# Altium schematic symbol library HC32brd.SCHLIB: 7 symbols
Pins are listed as number, name and electrical type; pins without a type are passive.

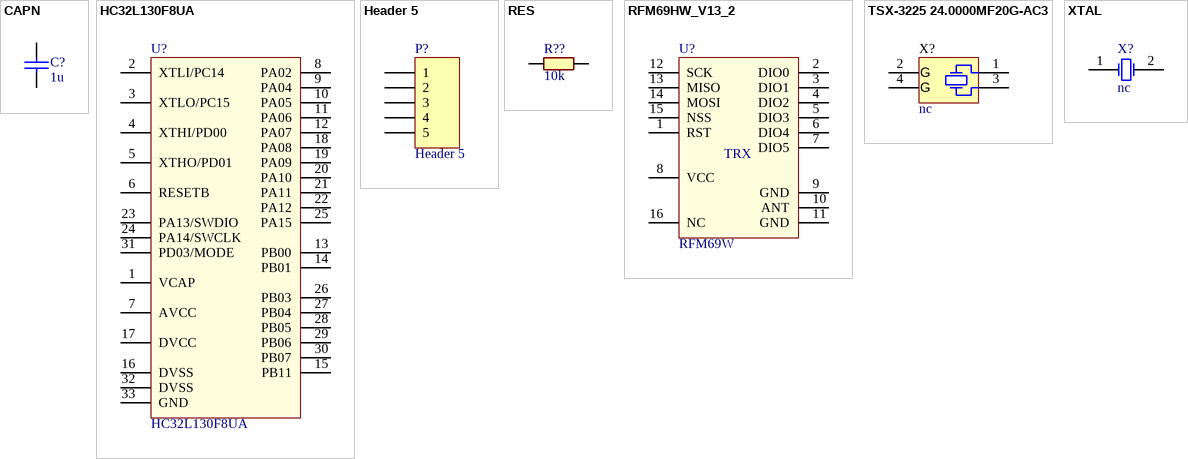
[diagram p0: symbols CAPN to XTAL]

## CAPN
designator C?, comment 1u
Вид: Конденсатор; Корпус: =Footprint; Тип: 1u
footprint C-0603
footprint C-0805
footprint C-1206
footprint CAPC1608X08N (Chip Capacitor, 2-Leads, Body 1,60x0,80mm, IPC Medium Density)
pins: 1, 2

## HC32L130F8UA
designator U?
pins: 1 VCAP, 2 XTLI/PC14, 3 XTLO/PC15, 4 XTHI/PD00, 5 XTHO/PD01, 6 RESETB, 7 AVCC, 8 PA02, 9 PA04, 10 PA05, 11 PA06, 12 PA07, 13 PB00, 14 PB01, 15 PB11, 16 DVSS, 17 DVCC, 18 PA08, 19 PA09, 20 PA10, 21 PA11, 22 PA12, 23 PA13/SWDIO, 24 PA14/SWCLK, 25 PA15, 26 PB03, 27 PB04, 28 PB05, 29 PB06, 30 PB07, 31 PD03/MODE, 32 DVSS, 33 GND

## Header 5
designator P?
Header, 5-Pin; LatestRevisionDate: 17-Jul-2002; LatestRevisionNote: Re-released for DXP Platform.; Publisher: Altium Limited
footprint HDR1X5 (Connector; Header; 5 Position)
signal-integrity model Connector
pins: 1, 2, 3, 4, 5

## RES
designator R??, comment 10k
Вид: Резистор; Корпус: =Footprint; Тип: 10k
footprint R-0603
footprint R-0805
footprint R-1206
footprint RESC1005X05N (Chip Resistor, 2-Leads, Body 1,05x0,54mm, IPC Medium Density)
footprint RESC1608X06N (Chip Resistor, 2-Leads, Body 1,60x0,82mm, IPC Medium Density)
footprint RESC2012X07N (Chip Resistor, 2-Leads, Body 2,00x1,25mm, IPC Medium Density)
footprint RESC3216X07N (Chip Resistor, 2-Leads, Body 3,20x1,60mm, IPC Medium Density)
footprint RESC3225X07N (Chip Resistor, 2-Leads, Body 3,20x2,49mm, IPC Medium Density)
footprint RESC1608X06N (Chip Resistor, 2-Leads, Body 1,60x0,82mm, IPC Medium Density)
pins: 1, 2

## RFM69HW_V13_2
designator U?, comment RFM69W
Вид: Модуль; Корпус: =Footprint; Тип: RFM69W
footprint LGA16_RFM69 (LGA, 16-Leads, RFM69HW)
footprint DIL16_RFM69
pins: 1 RST, 2 DIO0, 3 DIO1, 4 DIO2, 5 DIO3, 6 DIO4, 7 DIO5, 8 VCC, 9 GND, 10 ANT, 11 GND, 12 SCK, 13 MISO, 14 MOSI, 15 NSS, 16 NC
text: TRX

## TSX-3225 24.0000MF20G-AC3
designator X?, comment nc
Crystal, 24 MHz, 9 pF, SMD; PartNumber: TSX-3225 24.0000MF20G-AC3; Manufacturer: Epson; Вид: Кварц; CompType: Crystal; PackageReference: SMD, 4-Leads, Body 2.65x3.35mm, Height 0.6mm; MountType: SMT; Корпус: =Footprint; Тип: nc
footprint EPSON_TSX-3225
footprint KX-13
pins: 1, 2 GND (power), 3, 4 GND (power)
text: G

## XTAL
designator X?, comment nc
Crystal Oscillator; Published: 8-Jun-2000; LatestRevisionDate: 17-Jul-2002; LatestRevisionNote: Re-released for DXP Platform.; PackageReference: R38; Publisher: Altium Limited; PackageDescription: Crystal, Thru-Hole; 2 Leads; Body 3.1 x 8.2 mm (Dia.xH)
footprint R38 (Crystal, Thru-Hole; 2 Leads; Body 3.1 x 8.2 mm (Dia.xH))
simulation model XTAL (Spice Subcircuit)
pins: 1 OSC1, 2 OSC2